# Altium integrated library ABM8G-30.000MHZ-18-D2Y-T.IntLib: 1 symbol
Pins are listed as number, name and electrical type; pins without a type are passive.

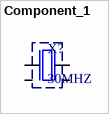
[diagram p0: symbol Component_1]

## Component_1
designator X?, comment 30MHZ
mf: ABM8G-30.000MHZ-18-D2Y-T; mf Company: ABM8G; Buying URL:: https://uk.rs-online.com/web/p/crystal-units/9047562/
footprint OSC_DSC6083CI2A-032K768
pins: 1, 2 Gnd (power), 3, 4 Gnd (power)